# EAGLE library part 685119135725 (library WE_Stecker)
WR-COM Angled SMT HDMI-19p + M3 flange =>Code : Con_I-O_COM_HDMI_685119135725 <http://katalog.we-online.de/media/images/eican/Con_I-O_COM_HDMI_685119135725_pf2.jpg> Details see: http://katalog.we-online.de/en/em/COM_SMT_HORIZONTAL_W_M3_SCREW/685119135725 Created 2014-07-09, Karrer Zheng 2014 (C) Würth Elektronik
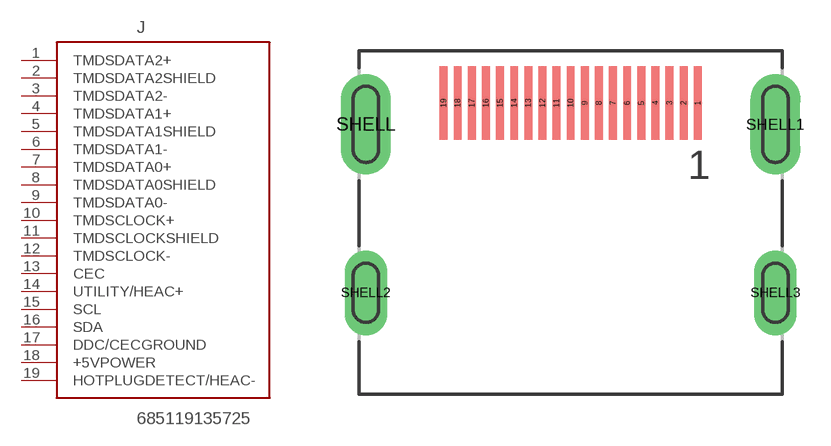
[diagram p141: symbol with the pads of 685119135725; footprint 685119135725]

Designator prefix J

## 685119135725  [685119135725]
1  TMDSDATA2+
2  TMDSDATA2SHIELD
3  TMDSDATA2-
4  TMDSDATA1+
5  TMDSDATA1SHIELD
6  TMDSDATA1-
7  TMDSDATA0+
8  TMDSDATA0SHIELD
9  TMDSDATA0-
10  TMDSCLOCK+
11  TMDSCLOCKSHIELD
12  TMDSCLOCK-
13  CEC
14  UTILITY/HEAC+
15  SCL
16  SDA
17  DDC/CECGROUND
18  +5VPOWER
19  HOTPLUGDETECT/HEAC-

## Footprint 685119135725 (pad centres in mm)
smd 0.28 x 2.6: 1 4.5,0.76; 2 4,0.76; 3 3.5,0.76; 4 3,0.76; 5 2.5,0.76; 6 2,0.76; 7 1.5,0.76; 8 1,0.76; 9 0.5,0.76; 10 0,0.76; 11 -0.5,0.76; 12 -1,0.76; 13 -1.5,0.76; 14 -2,0.76; 15 -2.5,0.76; 16 -3,0.76; 17 -3.5,0.76; 18 -4,0.76; 19 -4.5,0.76
drill 0.9 pad 1.778 long: SHELL -7.25,0; SHELL1 7.25,0
drill 0.9 pad 1.5 long: SHELL2 -7.25,-5.96; SHELL3 7.25,-5.96